# Altium footprint library ECG_BLE.PcbLib: 5 footprints
Each footprint in its own frame and in the unit in brackets; x right, y up, seen from the top. Pads: shape width x height; smd on the part's side, far side on the other; paste and mask are expansions set on the pad; w line width, h text height; cw(c..) or ccw(c..) is an arc to the next point about the centre after c.
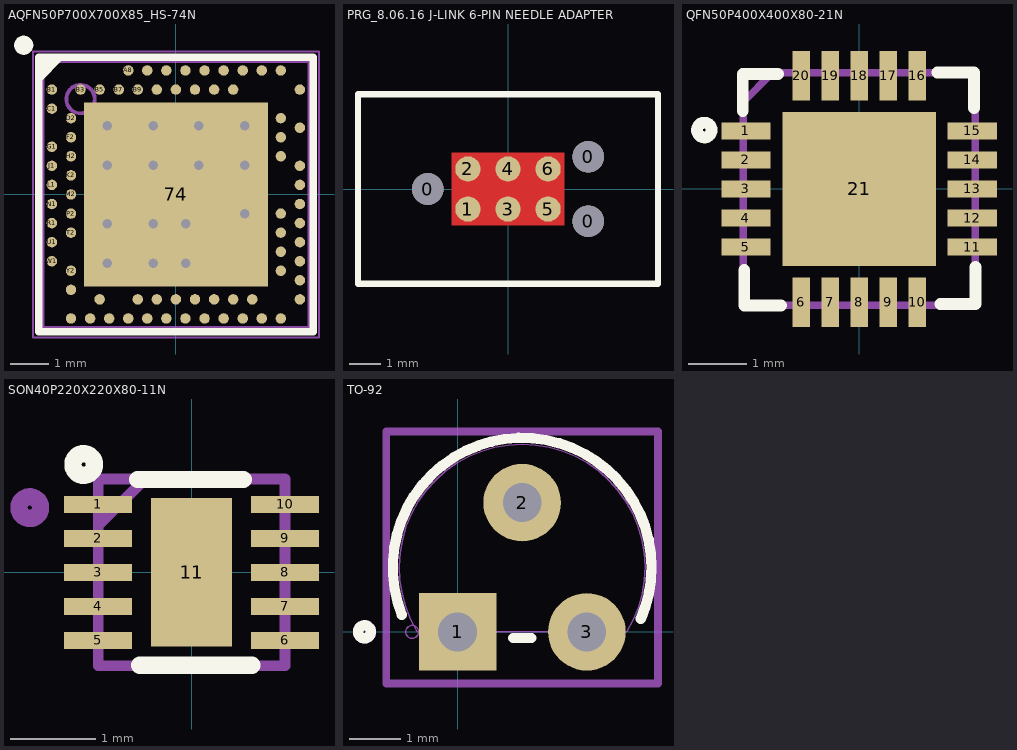
[diagram p0: the footprints below, top view; thin cyan lines are the x and y axes]

## AQFN50P700X700X85_HS-74N [mm]
pads (74):
  rect 4.83x4.83 smd mask+0.05: 74(0,0)
  round 0.275 smd paste+0.012 mask+0.05: A8(-1.25,3.25) A10(-0.75,3.25) A12(-0.25,3.25) A14(0.25,3.25) A16(0.75,3.25) A18(1.25,3.25) A20(1.75,3.25) A22(2.25,3.25) A23(2.75,3.25) AA24(3.25,-2.25) AB2(-2.75,-2.5) AC5(-2,-2.75) AC9(-1,-2.75) AC11(-0.5,-2.75) AC13(0,-2.75) AC15(0.5,-2.75) AC17(1,-2.75) AC19(1.5,-2.75) AC21(2,-2.75) AC24(3.25,-2.75) AD2(-2.75,-3.25) AD4(-2.25,-3.25) AD6(-1.75,-3.25) AD8(-1.25,-3.25) AD10(-0.75,-3.25) AD12(-0.25,-3.25) AD14(0.25,-3.25) AD16(0.75,-3.25) AD18(1.25,-3.25) AD20(1.75,-3.25) AD22(2.25,-3.25) AD23(2.75,-3.25) B1(-3.25,2.75) B3(-2.5,2.75) B5(-2,2.75) B7(-1.5,2.75) B9(-1,2.75) B11(-0.5,2.75) B13(0,2.75) B15(0.5,2.75) B17(1,2.75) B19(1.5,2.75) B24(3.25,2.75) C1(-3.25,2.25) D2(-2.75,2) D23(2.75,2) E24(3.25,1.75) F2(-2.75,1.5) F23(2.75,1.5) G1(-3.25,1.25) H2(-2.75,1) H23(2.75,1) J1(-3.25,0.75) J24(3.25,0.75) K2(-2.75,0.5) L1(-3.25,0.25) L24(3.25,0.25) M2(-2.75,0) N1(-3.25,-0.25) N24(3.25,-0.25) P2(-2.75,-0.5) P23(2.75,-0.5) R1(-3.25,-0.75) R24(3.25,-0.75) T2(-2.75,-1) T23(2.75,-1) U1(-3.25,-1.25) U24(3.25,-1.25) V23(2.75,-1.5) W1(-3.25,-1.75) W24(3.25,-1.75) Y2(-2.75,-2) Y23(2.75,-2)
via -1.8,1.8 diameter 0.5 hole 0.25
via -0.6,1.8 diameter 0.5 hole 0.25
via 0.6,1.8 diameter 0.5 hole 0.25
via 1.8,1.8 diameter 0.5 hole 0.25
via -1.8,0.762 diameter 0.5 hole 0.25
via -0.6,0.762 diameter 0.5 hole 0.25
via 0.6,0.762 diameter 0.5 hole 0.25
via 1.8,0.762 diameter 0.5 hole 0.25
via -1.8,-0.762 diameter 0.5 hole 0.25
via -0.6,-0.762 diameter 0.5 hole 0.25
via 0.254,-0.762 diameter 0.5 hole 0.25
via -1.8,-1.8 diameter 0.5 hole 0.25
via -0.6,-1.8 diameter 0.5 hole 0.25
via 0.254,-1.8 diameter 0.5 hole 0.25
via 1.8,-0.508 diameter 0.5 hole 0.25
Top Overlay:
  circle w0.25: c-3.988,3.912 r0.125
  region: -3,3.5 -3.5,3 -3.5,3.5
  lines w0.2: -3.6,-3.6 -3.6,3.6 3.6,3.6 3.6,-3.6 -3.6,-3.6
Mechanical 7:
  circle w0.1: c-2.5,2.5 r0.373
  lines w0.1: -3.5,-3.5 3.5,-3.5 3.5,3.5 -3.5,3.5 -3.5,-3.5
  text ".Designator" at 0.305,0.076 h0.3
Mechanical 15:
  lines w0.05: -3.75,-3.75 -3.75,3.75 3.75,3.75 3.75,-3.75 -3.75,-3.75
  lines w0.1: -0.5,0 0.5,0 ; 0,-0.5 0,0.5
3D body "LGA88C25P25X25_700X700X85.step": height 0.85, standoff 0, extent -3.55,-3.55 3.55,3.55

## PRG_8.06.16 J-LINK 6-PIN NEEDLE ADAPTER [mm]
height 3.2
pads (9):
  round 1 hole 1 unplated: 0(-2.54,0) 0(2.54,-1.016) 0(2.54,1.016)
  round 0.8 smd: 1(-1.27,-0.635) 2(-1.27,0.635) 3(0,-0.635) 4(0,0.635) 5(1.27,-0.635) 6(1.27,0.635)
Top Layer:
  pour cut-out: -1.778,-1.143 -1.778,1.143 1.778,1.143 1.778,-1.143
Top Overlay:
  lines w0.203: -4.75,-3 4.75,-3 4.75,3 -4.75,3 -4.75,-3
Mechanical 1:
  text "'.Designator'" at -1.016,-0.762 h2.54
Mechanical 15:
  lines w0.127: -4.75,-3 -4.75,3 4.75,3 4.75,-3 -4.75,-3

## QFN50P400X400X80-21N [mm] "IC ECG FRONT END 20LFCSP"
height 0.8
pads (21):
  rect 0.85x0.3 smd paste+0 mask+0: 1(-1.95,1) 2(-1.95,0.5) 3(-1.95,0) 4(-1.95,-0.5) 5(-1.95,-1) 11(1.95,-1) 12(1.95,-0.5) 13(1.95,0) 14(1.95,0.5) 15(1.95,1)
  rect 0.3x0.85 smd paste+0 mask+0: 6(-1,-1.95) 7(-0.5,-1.95) 8(0,-1.95) 9(0.5,-1.95) 10(1,-1.95) 16(1,1.95) 17(0.5,1.95) 18(0,1.95) 19(-0.5,1.95) 20(-1,1.95)
  rect 2.65x2.65 smd paste+0 mask+0: 21(0,0)
Top Overlay:
  circle w0.203: c-2.667,1.016 r0.127
  lines w0.203: -2.007,1.346 -2.007,1.981 -1.397,1.981 ; -1.981,-1.397 -1.981,-2.007 -1.346,-2.007 ; 1.346,2.007 1.981,2.007 1.981,1.397 ; 1.397,-1.981 2.007,-1.981 2.007,-1.346
Mechanical 15:
  circle w0.127: c-2.667,1.016 r0.127
  lines w0.127: -2,1.5 -1.5,2 ; -2,-2 2,-2 2,2 -2,2 -2,-2
3D body "AD8232ACPZ-R7.stp": height 0.8, standoff 0, extent -2.05,-2.05 2.05,2.05

## SON40P220X220X80-11N [mm] "1.6A LINEAR LI-ION CHGR 10TDFN"
height 0.8
pads (11):
  rect 0.8x0.2 smd paste+0 mask+0: 1(-1.1,0.8) 2(-1.1,0.4) 3(-1.1,0) 4(-1.1,-0.4) 5(-1.1,-0.8) 6(1.1,-0.8) 7(1.1,-0.4) 8(1.1,0) 9(1.1,0.4) 10(1.1,0.8)
  rect 0.95x1.75 smd paste+0 mask+0: 11(0,0)
Top Overlay:
  circle w0.203: c-1.27,1.27 r0.127
  lines w0.203: -0.635,1.092 0.61,1.092 ; -0.61,-1.092 0.711,-1.092
Mechanical 1:
  text "'.Designator'" at 0,0 h1.52
Mechanical 15:
  circle w0.203: c-1.905,0.762 r0.127
  lines w0.127: -1.1,0.55 -0.55,1.1 ; -1.1,-1.1 -1.1,1.1 1.1,1.1 1.1,-1.1 -1.1,-1.1
3D body "AAT3693IDH-AA-T1.stp": height 0.8, standoff 0, extent -1.15,-1.1 1.15,1.1

## TO-92 [mil] "SENSOR ANALOG -40C-125C TO92-3"
height 709.84
pads (3):
  rect 60x60 hole 30: 1(0,0)
  round 60 hole 30: 2(50,100) 3(100,0)
Top Overlay:
  circle w8: c-72,0 r5
  lines w8: -43.1,13.28 cw(c50,50) 150.08,50 cw(c50,50) 141.86,10.28 ; 43.1,-4.8 57.17,-4.8
Mechanical 1:
  circle w1: c-35.08,0 r5
  lines w1: -30.99,0.2 cw(c50,50) 130.99,0.2 -30.99,0.2
  lines w6: -10,0 10,0 ; 0,-10 0,10
  text "'.Designator'" at 0,0 h60
Mechanical 15:
  circle w8: c-72,0 r5
  lines w6: -55.08,-40 155.08,-40 155.08,155.08 -55.08,155.08 -55.08,-40
3D body "T_3.step": height 288.58, standoff -101.26, extent -45.05,-9.99 145.07,145.08